# Altium schematic symbol library AT24MAC402.Schlib: 1 symbol
Pins are listed as number, name and electrical type; pins without a type are passive.

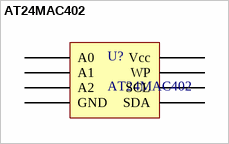
[diagram p0: symbol AT24MAC402]

## AT24MAC402
designator U?
2kbit I2C EEPROM w/ 48-bit EUID
pins: 1 A0, 2 A1, 3 A2, 4 GND, 5 SDA, 6 SCL, 7 WP, 8 Vcc